# Altium schematic symbol library LMZ Power Module.Schlib: 1 symbol
Pins are listed as number, name and electrical type; pins without a type are passive.

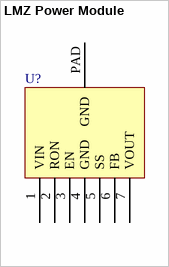
[diagram p0: symbol LMZ Power Module]

## LMZ Power Module
designator U?
pins: 1 VIN, 2 RON, 3 EN, 4 GND, 5 SS, 6 FB, 7 VOUT, PAD GND